# Altium footprint library pcbComponent.PCBLIB: 67 footprints (part 1 of 5)
Each footprint in its own frame and in the unit in brackets; x right, y up, seen from the top. Pads: shape width x height; smd on the part's side, far side on the other; paste and mask are expansions set on the pad; w line width, h text height; cw(c..) or ccw(c..) is an arc to the next point about the centre after c.
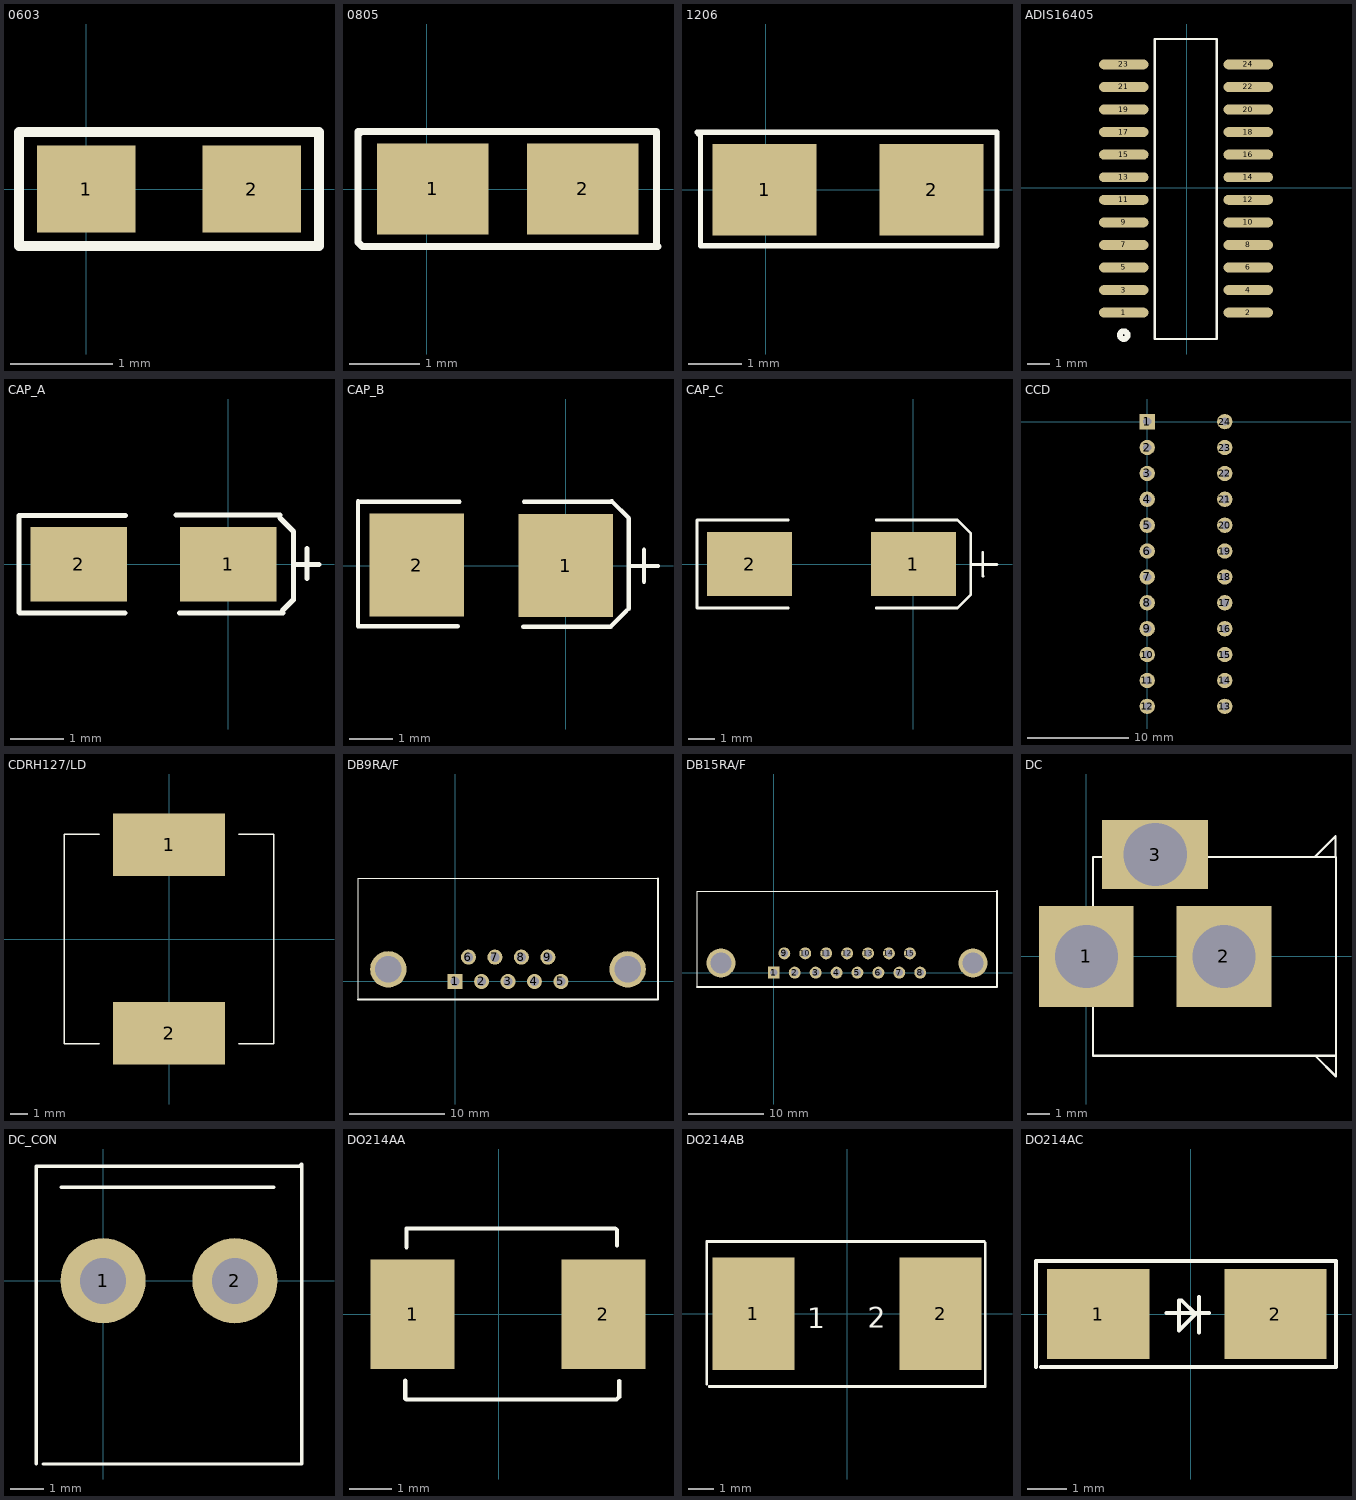
[diagram p0: the footprints below, top view; thin cyan lines are the x and y axes]

## 0603 [mm]
pads (2):
  rect 0.965x0.85 smd: 1(0,0) 2(1.626,0)
TopOverlay:
  lines w0.1: -0.66,-0.559 -0.66,0.559 0.559,0.559 1.082,0.559 2.286,0.559 2.286,-0.559 1.082,-0.559 0.559,-0.559 -0.66,-0.559

## 0805 [mm]
pads (2):
  rect 1.586x1.294 smd: 1(0.085,0.005) 2(2.215,0.005)
TopOverlay:
  lines w0.1: -0.975,-0.755 -0.975,0.82 ; -0.95,-0.78 -0.915,-0.815 3.285,-0.815 3.265,-0.795 3.265,0.82 -0.975,0.82 ; -0.95,0.795 -0.975,0.82

## 1206 [mm]
pads (2):
  rect 1.96x1.72 smd: 1(-0.025,0.005) 2(3.115,0.005)
TopOverlay:
  lines w0.1: -1.255,1.045 -1.295,1.085 4.345,1.085 4.345,-1.05 -1.23,-1.05 -1.23,1.07

## ADIS16405 [mm]
pads (24):
  oval 2.2x0.44 smd: 1(-2.79,-5.53) 2(2.725,-5.53) 3(-2.79,-4.53) 4(2.725,-4.53) 5(-2.79,-3.53) 6(2.725,-3.53) 7(-2.79,-2.53) 8(2.725,-2.53) 9(-2.79,-1.53) 10(2.725,-1.53) 11(-2.79,-0.53) 12(2.725,-0.53) 13(-2.79,0.47) 14(2.725,0.47) 15(-2.79,1.47) 16(2.725,1.47) 17(-2.79,2.47) 18(2.725,2.47) 19(-2.79,3.47) 20(2.725,3.47) 21(-2.79,4.47) 22(2.725,4.47) 23(-2.79,5.47) 24(2.725,5.47)
TopOverlay:
  circle w0.254: c-2.792,-6.525 r0.172
  lines w0.102: 1.305,6.595 -1.415,6.595 -1.415,-6.698 1.335,-6.698 1.335,6.595

## CAP_A [mm]
pads (2):
  rect 1.8x1.4 smd: 1(0,0) 2(-2.794,0)
TopOverlay:
  lines w0.1: -3.91,-0.9 -3.91,0.91 -1.92,0.91 ; -3.9,-0.91 -1.93,-0.91 ; -0.97,0.92 0.96,0.92 ; -0.91,-0.91 1.02,-0.91 ; 0.965,0.864 1.219,0.61 1.219,-0.66 1.016,-0.864 ; 1.219,-0.005 1.695,-0.005 ; 1.47,-0.265 1.47,0.295

## CAP_B [mm]
pads (2):
  rect 2.2x2.4 smd: 1(0,0) 2(-3.465,0.01)
TopOverlay:
  lines w0.1: -4.827,1.49 -4.827,-1.41 -2.51,-1.41 ; -4.777,1.48 -2.47,1.48 ; -0.99,-1.42 1.042,-1.42 1.41,-1.052 ; -0.97,1.48 1.062,1.48 ; 1.062,1.49 1.07,1.49 1.46,1.1 1.46,-1.002 ; 1.46,-0.01 2.14,-0.01 ; 1.815,-0.375 1.815,0.365

## CAP_C [mm]
pads (2):
  rect 3.2x2.4 smd: 1(0,0) 2(-6.155,-0.005)
TopOverlay:
  lines w0.1: -4.699,-1.651 -8.128,-1.651 -8.128,1.651 -4.699,1.651 ; -1.397,-1.651 1.651,-1.651 2.159,-1.143 2.159,1.143 1.651,1.651 -1.397,1.651 ; 2.159,-0.02 3.14,-0.02 ; 2.605,0.43 2.605,-0.445 2.615,-0.455

## CCD [mm]
pads (24):
  rect 1.5x1.5 hole 0.8: 1(0,0)
  round 1.5 hole 0.8: 2(0,-2.54) 3(0,-5.08) 4(0,-7.62) 5(0,-10.16) 6(0,-12.7) 7(0,-15.24) 8(0,-17.78) 9(0,-20.32) 10(0,-22.86) 11(0,-25.4) 12(0,-27.94) 13(7.62,-27.94) 14(7.62,-25.4) 15(7.62,-22.86) 16(7.62,-20.32) 17(7.62,-17.78) 18(7.62,-15.24) 19(7.62,-12.7) 20(7.62,-10.16) 21(7.62,-7.62) 22(7.62,-5.08) 23(7.62,-2.54) 24(7.62,0)

## CDRH127/LD [mm]
pads (2):
  rect 6.4x3.6 smd: 1(0,5.4) 2(0,-5.4)
TopOverlay:
  lines w0.1: -4,-6 -6,-6 -6,6 -4,6 ; 4,-6 6,-6 6,6 4,6

## DB9RA/F [mil]
pads (11):
  rect 62x62 hole 38: 1(0,0)
  round 62 hole 38: 2(109,0) 3(218,0) 4(327,0) 5(436,0) 6(55,100) 7(164,100) 8(273,100) 9(382,100)
  round 150 hole 110: ""(-275,50) ""(711,50)
TopOverlay:
  lines w3.94: -400,-75 -400,425 836,425
  lines w8: -400,-75 836,-75 836,425

## DB15RA/F [mil]
pads (17):
  rect 62x62 hole 38: 1(0,0)
  round 62 hole 38: 2(109,0) 3(218,0) 4(327,0) 5(436,0) 6(545,0) 7(654,0) 8(763,0) 9(55,100) 10(164,100) 11(273,100) 12(382,100) 13(491,100) 14(600,100) 15(709,100)
  round 150 hole 110: ""(-275,50) ""(1038,50)
TopOverlay:
  lines w3.94: -400,-75 -400,425 1163,425
  lines w8: -400,-75 1163,-75 1163,425

## DC [mm]
pads (3):
  rect 4.28x4.56 hole 2.86: 1(0,0) 2(6.23,0)
  rect 4.8x3.12 hole 2.86: 3(3.115,4.61)
TopOverlay:
  lines w0.1: 10.109,-4.5 10.393,-4.5 ; 10.342,4.5 11.278,5.436 ; 10.363,-4.5 11.299,-5.436 ; 11.278,4.521 11.278,5.434 ; 11.3,-5.413 11.3,-4.5 ; 11.3,-4.5 11.3,4.5 0.3,4.5 0.3,-4.5 11.3,-4.5

## DC_CON [mm]
pads (2):
  round 2.56 hole 1.38: 1(0,0) 2(3.96,0)
TopOverlay:
  lines w0.1: -2,-5.5 -2,3.44 5.895,3.44 5.96,3.505 5.96,0 5.96,-0.935 5.96,-5.5 -1.79,-5.5 ; -1.25,2.81 5.13,2.81

## DO214AA [mm]
pads (2):
  rect 2x2.6 smd: 1(-2.06,0) 2(2.49,0)
TopOverlay:
  lines w0.1: -2.235,-1.585 -2.235,-2.01 -2.21,-2.035 2.8,-2.035 2.865,-1.97 2.865,-1.595 ; -2.205,1.595 -2.205,2.045 2.77,2.045 2.81,2.005 2.81,1.635

## DO214AB [mm]
pads (2):
  rect 3.2x4.4 smd: 1(-3.655,0) 2(3.65,0)
TopOverlay:
  lines w0.1: -5.47,-2.755 -5.47,-2.455 -5.47,-2.255 -5.47,2.615 -5.47,2.815 5.36,2.815 ; -5.385,-2.84 5.4,-2.84 5.4,-2.46 5.4,2.46 5.4,2.775
  text "1" at -1.555,-0.57 h0.8
  text "2" at 0.815,-0.545 h0.8

## DO214AC [mm]
pads (2):
  rect 2.6x2.3 smd: 1(-2.35,0) 2(2.155,0)
TopOverlay:
  lines w0.1: -3.93,-1.35 -3.93,1.35 ; -3.91,1.35 3.695,1.35 3.695,-1.35 -3.81,-1.35 ; -0.62,0.025 0.465,0.025 ; 0.055,0 0.12,0 ; 0.21,-0.465 0.21,0.43 ; 0.21,-0.39 0.21,-0.19 ; 0.12,0 -0.295,-0.415 -0.295,0.35 -0.23,0.35 0.12,0